# Altium footprint library CUHS20S30,H3F.PcbLib: 3 footprints
Each footprint in its own frame and in the unit in brackets; x right, y up, seen from the top. Pads: shape width x height; smd on the part's side, far side on the other; paste and mask are expansions set on the pad; w line width, h text height; cw(c..) or ccw(c..) is an arc to the next point about the centre after c.
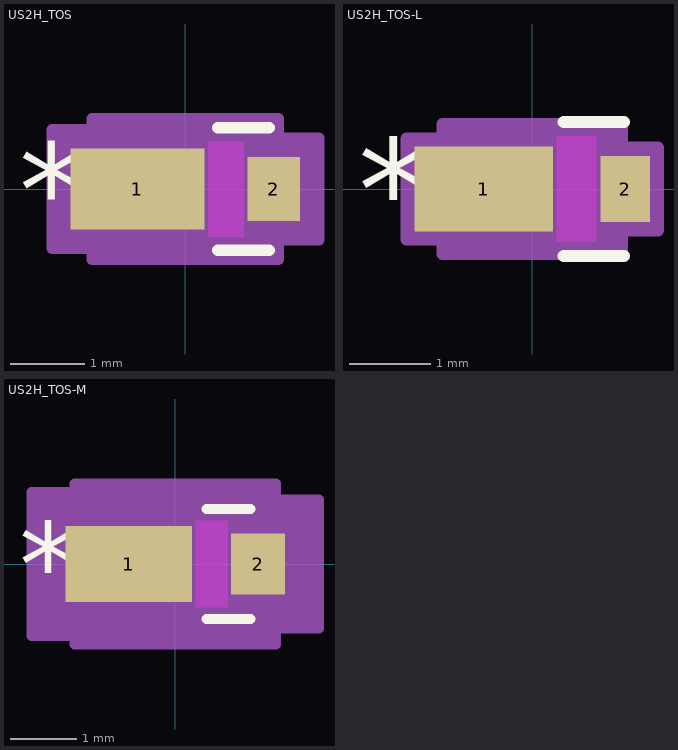
[diagram p0: the footprints below, top view; thin cyan lines are the x and y axes]

## US2H_TOS [mil]
pads (2):
  rect 71x43 smd paste+0 mask+0: 1(-25.5,0)
  rect 28x34 smd paste+0 mask+0: 2(47,0)
Top Layer keep-out:
  region: 12,-25.5 12,25.5 31,25.5 31,-25.5
Top Overlay:
  lines w6: 17.11,-32.5 44.5,-32.5 ; 17.11,32.5 44.5,32.5
  text "*" at -88.5,-25 h50
Keep-Out Layer:
  region: 12,-25.5 12,25.5 31,25.5 31,-25.5
Mechanical 13:
  lines w1: -39.5,-13.75 -25.75,-27.5 ; -39.5,13.75 -25.75,27.5 ; -53,-21.5 -53,21.5 -39.5,21.5 -39.5,-21.5 -53,-21.5 ; -39.5,-27.5 39.5,-27.5 39.5,27.5 -39.5,27.5 -39.5,-27.5 ; 39.5,-17 39.5,17 53,17 53,-17 39.5,-17
  text "*" at -42,-25 h50
Mechanical 15:
  region: -49.5,-31.5 -71,-31.5 -71,31.5 -49.5,31.5 -49.5,37.5 49.5,37.5 49.5,27 71,27 71,-27 49.5,-27 49.5,-37.5 -49.5,-37.5
  lines w6: -71,-31.5 -71,31.5 -49.5,31.5 -49.5,37.5 49.5,37.5 49.5,27 71,27 71,-27 49.5,-27 49.5,-37.5 -49.5,-37.5 -49.5,-31.5 -71,-31.5
3D body "US2H_TOS.step": height 27.09, standoff 0, extent -52.99,-27.48 52.99,27.48

## US2H_TOS-L [mil]
pads (2):
  rect 67x41 smd paste+0 mask+0: 1(-23.5,0)
  rect 24x32 smd paste+0 mask+0: 2(45,0)
Top Layer keep-out:
  region: 12,-25.5 12,25.5 31,25.5 31,-25.5
Top Overlay:
  lines w6: 15.25,-32.5 44.5,-32.5 ; 15.25,32.5 44.5,32.5
  text "*" at -84.5,-25 h50
Keep-Out Layer:
  region: 12,-25.5 12,25.5 31,25.5 31,-25.5
Mechanical 13:
  lines w1: -39.5,-13.75 -25.75,-27.5 ; -39.5,13.75 -25.75,27.5 ; -53,-21.5 -53,21.5 -39.5,21.5 -39.5,-21.5 -53,-21.5 ; -39.5,-27.5 39.5,-27.5 39.5,27.5 -39.5,27.5 -39.5,-27.5 ; 39.5,-17 39.5,17 53,17 53,-17 39.5,-17
  text "*" at -42,-25 h50
Mechanical 15:
  region: -43.5,-24.5 -61,-24.5 -61,24.5 -43.5,24.5 -43.5,31.5 43.5,31.5 43.5,20 61,20 61,-20 43.5,-20 43.5,-31.5 -43.5,-31.5
  lines w6: -61,-24.5 -61,24.5 -43.5,24.5 -43.5,31.5 43.5,31.5 43.5,20 61,20 61,-20 43.5,-20 43.5,-31.5 -43.5,-31.5 -43.5,-24.5 -61,-24.5
3D body "US2H_TOS.step": height 27.09, standoff 0, extent -52.99,-27.48 52.99,27.48

## US2H_TOS-M [mil]
pads (2):
  rect 75x45 smd paste+0 mask+0: 1(-27.5,0)
  rect 32x36 smd paste+0 mask+0: 2(49,0)
Top Layer keep-out:
  region: 12,-25.5 12,25.5 31,25.5 31,-25.5
Top Overlay:
  lines w6: 18.46,-32.5 44.5,-32.5 ; 18.46,32.5 44.5,32.5
  text "*" at -92.5,-25 h50
Keep-Out Layer:
  region: 12,-25.5 12,25.5 31,25.5 31,-25.5
Mechanical 13:
  lines w1: -39.5,-13.75 -25.75,-27.5 ; -39.5,13.75 -25.75,27.5 ; -53,-21.5 -53,21.5 -39.5,21.5 -39.5,-21.5 -53,-21.5 ; -39.5,-27.5 39.5,-27.5 39.5,27.5 -39.5,27.5 -39.5,-27.5 ; 39.5,-17 39.5,17 53,17 53,-17 39.5,-17
  text "*" at -42,-25 h50
Mechanical 15:
  region: -59.5,-42.5 -85,-42.5 -85,42.5 -59.5,42.5 -59.5,47.5 59.5,47.5 59.5,38 85,38 85,-38 59.5,-38 59.5,-47.5 -59.5,-47.5
  lines w6: -85,-42.5 -85,42.5 -59.5,42.5 -59.5,47.5 59.5,47.5 59.5,38 85,38 85,-38 59.5,-38 59.5,-47.5 -59.5,-47.5 -59.5,-42.5 -85,-42.5
3D body "US2H_TOS.step": height 27.09, standoff 0, extent -52.99,-27.48 52.99,27.48